# Altium footprint library CONN_HDR_2.54MM_BOX_IDC.PcbLib: 37 footprints (part 3 of 3)
Each footprint in its own frame and in the unit in brackets; x right, y up, seen from the top. Pads: shape width x height; smd on the part's side, far side on the other; paste and mask are expansions set on the pad; w line width, h text height; cw(c..) or ccw(c..) is an arc to the next point about the centre after c.
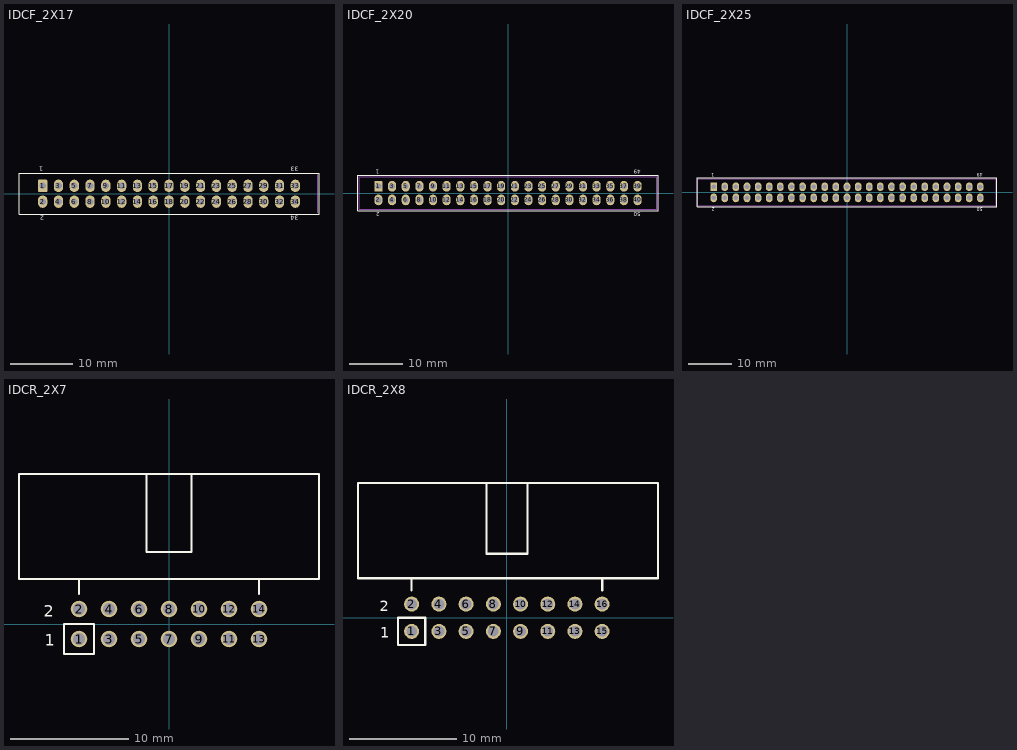
[diagram p2: the footprints below, top view; thin cyan lines are the x and y axes]

## IDCF_2X17 [mm] "SOCKET BRD MNT 34POS 2.54MM"
height 10.8
pads (34):
  rrect25% 1.5x2 hole 1.067: 1(-20.32,1.27)
  oval 1.5x2 hole 1.067: 2(-20.32,-1.27) 3(-17.78,1.27) 4(-17.78,-1.27) 5(-15.24,1.27) 6(-15.24,-1.27) 7(-12.7,1.27) 8(-12.7,-1.27) 9(-10.16,1.27) 10(-10.16,-1.27) 11(-7.62,1.27) 12(-7.62,-1.27) 13(-5.08,1.27) 14(-5.08,-1.27) 15(-2.54,1.27) 16(-2.54,-1.27) 17(0,1.27) 18(0,-1.27) 19(2.54,1.27) 20(2.54,-1.27) 21(5.08,1.27) 22(5.08,-1.27) 23(7.62,1.27) 24(7.62,-1.27) 25(10.16,1.27) 26(10.16,-1.27) 27(12.7,1.27) 28(12.7,-1.27) 29(15.24,1.27) 30(15.24,-1.27) 31(17.78,1.27) 32(17.78,-1.27) 33(20.32,1.27) 34(20.32,-1.27)
Top Overlay:
  lines w0.2: -24.13,-3.302 24.13,-3.302 24.13,3.302 -24.13,3.302 -24.13,-3.302
  text "1" at -20.193,4.318 h0.76
  text "2" at -20.066,-3.556 h0.76
  text "33" at 20.904,4.318 h0.76
  text "34" at 20.904,-3.556 h0.76
Mechanical 13:
  lines w0.076: 23.92,-3.05 23.92,3.05
3D body "34P BoxHeader.stp": height 10.8, standoff -2.8, extent -23.915,-3.05 23.925,4.05

## IDCF_2X20 [mm] "SOCKET BRD MNT 40POS 2.54MM"
height 10.8
pads (40):
  rrect25% 1.5x2 hole 1.067: 1(-24.13,1.27)
  oval 1.5x2 hole 1.067: 2(-24.13,-1.27) 3(-21.59,1.27) 4(-21.59,-1.27) 5(-19.05,1.27) 6(-19.05,-1.27) 7(-16.51,1.27) 8(-16.51,-1.27) 9(-13.97,1.27) 10(-13.97,-1.27) 11(-11.43,1.27) 12(-11.43,-1.27) 13(-8.89,1.27) 14(-8.89,-1.27) 15(-6.35,1.27) 16(-6.35,-1.27) 17(-3.81,1.27) 18(-3.81,-1.27) 19(-1.27,1.27) 20(-1.27,-1.27) 21(1.27,1.27) 22(1.27,-1.27) 23(3.81,1.27) 24(3.81,-1.27) 25(6.35,1.27) 26(6.35,-1.27) 27(8.89,1.27) 28(8.89,-1.27) 29(11.43,1.27) 30(11.43,-1.27) 31(13.97,1.27) 32(13.97,-1.27) 33(16.51,1.27) 34(16.51,-1.27) 35(19.05,1.27) 36(19.05,-1.27) 37(21.59,1.27) 38(21.59,-1.27) 39(24.13,1.27) 40(24.13,-1.27)
Top Overlay:
  lines w0.2: -27.94,-3.302 27.94,-3.302 27.94,3.302 -27.94,3.302 -27.94,-3.302
  text "50" at 24.714,-3.556 h0.76
  text "49" at 24.714,4.318 h0.76
  text "2" at -23.876,-3.556 h0.76
  text "1" at -24.003,4.318 h0.76
Mechanical 13:
  lines w0.076: -27.73,-3.05 -27.73,3.05 27.73,3.05 27.73,-3.05 -27.73,-3.05
3D body "40P BoxHeader.STEP": height 10.8, standoff -2.54, extent -27.73,-3.05 27.73,4.05

## IDCF_2X25 [mm] "SOCKET BRD MNT 50POS 2.54MM"
height 10.8
pads (50):
  rrect25% 1.5x2 hole 1.067: 1(-30.48,1.27)
  oval 1.5x2 hole 1.067: 2(-30.48,-1.27) 3(-27.94,1.27) 4(-27.94,-1.27) 5(-25.4,1.27) 6(-25.4,-1.27) 7(-22.86,1.27) 8(-22.86,-1.27) 9(-20.32,1.27) 10(-20.32,-1.27) 11(-17.78,1.27) 12(-17.78,-1.27) 13(-15.24,1.27) 14(-15.24,-1.27) 15(-12.7,1.27) 16(-12.7,-1.27) 17(-10.16,1.27) 18(-10.16,-1.27) 19(-7.62,1.27) 20(-7.62,-1.27) 21(-5.08,1.27) 22(-5.08,-1.27) 23(-2.54,1.27) 24(-2.54,-1.27) 25(0,1.27) 26(0,-1.27) 27(2.54,1.27) 28(2.54,-1.27) 29(5.08,1.27) 30(5.08,-1.27) 31(7.62,1.27) 32(7.62,-1.27) 33(10.16,1.27) 34(10.16,-1.27) 35(12.7,1.27) 36(12.7,-1.27) 37(15.24,1.27) 38(15.24,-1.27) 39(17.78,1.27) 40(17.78,-1.27) 41(20.32,1.27) 42(20.32,-1.27) 43(22.86,1.27) 44(22.86,-1.27) 45(25.4,1.27) 46(25.4,-1.27) 47(27.94,1.27) 48(27.94,-1.27) 49(30.48,1.27) 50(30.48,-1.27)
Top Overlay:
  lines w0.2: -34.29,-3.302 34.29,-3.302 34.29,3.302 -34.29,3.302 -34.29,-3.302
  text "50" at 31.064,-3.556 h0.76
  text "49" at 31.064,4.318 h0.76
  text "2" at -30.226,-3.556 h0.76
  text "1" at -30.353,4.318 h0.76
Mechanical 13:
  lines w0.076: -34.08,-3.05 -34.08,3.05 34.08,3.05 34.08,-3.05 -34.08,-3.05
3D body "50P BoxHeader.stp": height 10.8, standoff -2.8, extent -34.075,-3.05 34.085,4.05

## IDCR_2X7 [mm]
pads (14):
  round 1.4 / inner round 1.4 / far side oval 1.4x2.2 hole 1 mask+0.1: 1(-7.62,-1.27) 2(-7.62,1.27) 3(-5.08,-1.27) 4(-5.08,1.27) 5(-2.54,-1.27) 6(-2.54,1.27) 7(0,-1.27) 8(0,1.27) 9(2.54,-1.27) 10(2.54,1.27) 11(5.08,-1.27) 12(5.08,1.27) 13(7.62,-1.27) 14(7.62,1.27)
Top Overlay:
  lines w0.2: -7.62,2.54 -7.62,3.81 ; -1.905,12.7 -1.905,6.096 1.905,6.096 1.905,12.7 ; 7.62,2.54 7.62,3.81 ; -12.7,3.81 12.7,3.81 12.7,12.7 -12.7,12.7 -12.7,3.81 ; -8.89,-2.54 -8.89,0 -6.35,0 -6.35,-2.54 -8.89,-2.54
  text "2" at -10.6,0.6 h1
  text "1" at -10.541,-1.854 h1
3D body "D2514-5002-AR (14P_RA).STEP": height 8.64, standoff -2.84, extent -12.548,-1.587 12.547,11.176

## IDCR_2X8 [mm]
pads (16):
  round 1.4 / inner round 1.4 / far side oval 1.4x2.2 hole 1 mask+0.1: 1(-8.89,-1.27) 2(-8.89,1.27) 3(-6.35,-1.27) 4(-6.35,1.27) 5(-3.81,-1.27) 6(-3.81,1.27) 7(-1.27,-1.27) 8(-1.27,1.27) 9(1.27,-1.27) 10(1.27,1.27) 11(3.81,-1.27) 12(3.81,1.27) 13(6.35,-1.27) 14(6.35,1.27) 15(8.89,-1.27) 16(8.89,1.27)
Top Overlay:
  lines w0.2: -8.89,2.54 -8.89,3.7 ; -1.905,12.57 -1.905,5.966 1.905,5.966 1.905,12.57 ; 8.89,2.54 8.89,3.7 ; -13.9,3.68 -13.9,12.57 14.1,12.57 14.1,3.68 -13.9,3.68 ; -10.16,-2.54 -7.62,-2.54 -7.62,0 -10.16,0 -10.16,-2.54
  text "1" at -11.811,-1.854 h1
  text "2" at -11.87,0.6 h1
3D body "Box Header 3M 2516_RA.STEP": height 8.64, standoff -2.84, extent -13.818,-1.581 13.817,11.176